# EAGLE library part USB2UART (library wolfi)
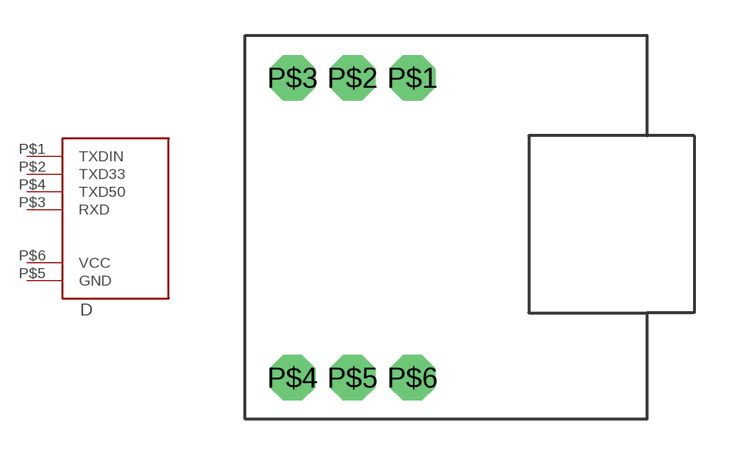
[diagram p18: symbol with the pads of USB2UART; footprint USB2UART]

Designator prefix D

## USB2UART  [USB2UART]
P$1  TXDIN  in
P$2  TXD33  out
P$3  RXD  in
P$4  TXD50  out
P$5  GND  pwr
P$6  VCC  pwr

## Footprint USB2UART (pad centres in mm)
drill 0.8 pad 1.93 octagon: P$1 5.08,12.7; P$2 2.54,12.7; P$3 0,12.7; P$4 0,0; P$5 2.54,0; P$6 5.08,0